# Altium integrated library xilinx-xc9.IntLib: 2 symbols
Pins are listed as number, name and electrical type; pins without a type are passive.

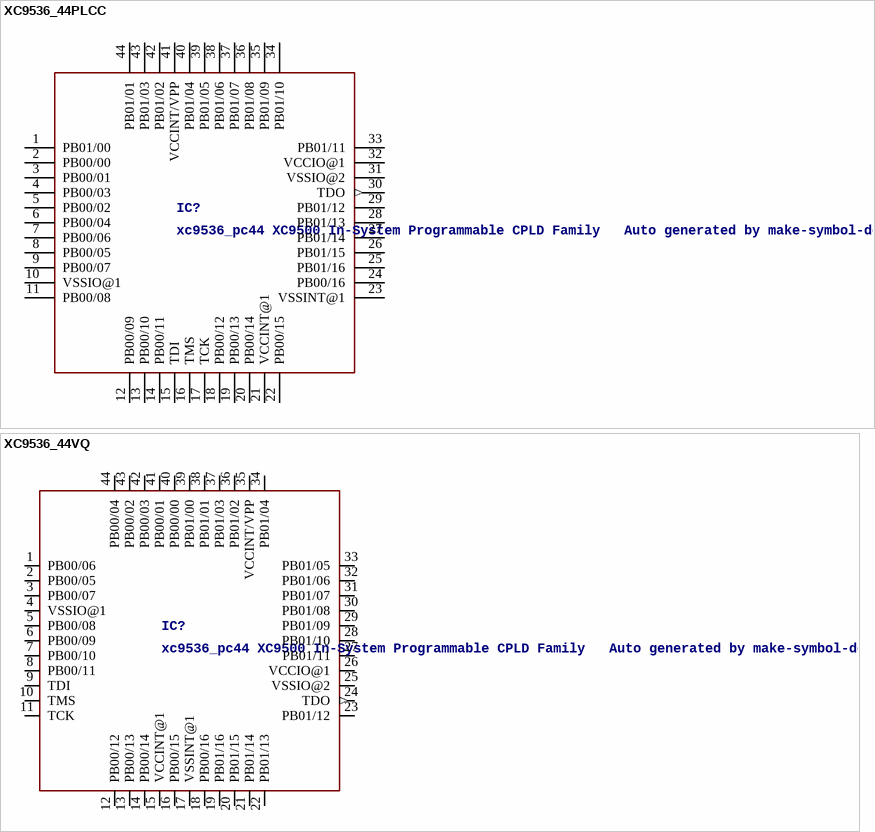
[diagram p0: symbols XC9536_44PLCC to XC9536_44VQ]

## XC9536_44PLCC
designator IC?, comment xc9536_pc44 XC9500 In-System Programmable CPLD Family   Auto generated by make-symbol-device-package-bsdl.ulp Rev. 34 Source: xc9536_pc44.bsd
MPN: XC9536-15PCG44C; OC_FARNELL: 1193226; OC_NEWARK: 98K3376
footprint PLCC44
pins: 1 PB01/00, 2 PB00/00, 3 PB00/01, 4 PB00/03, 5 PB00/02, 6 PB00/04, 7 PB00/06, 8 PB00/05, 9 PB00/07, 10 VSSIO@1 (power), 11 PB00/08, 12 PB00/09, 13 PB00/10, 14 PB00/11, 15 TDI, 16 TMS, 17 TCK, 18 PB00/12, 19 PB00/13, 20 PB00/14, 21 VCCINT@1 (power), 22 PB00/15, 23 VSSINT@1 (power), 24 PB00/16, 25 PB01/16, 26 PB01/15, 27 PB01/14, 28 PB01/13, 29 PB01/12, 30 TDO (out), 31 VSSIO@2 (power), 32 VCCIO@1 (power), 33 PB01/11, 34 PB01/10, 35 PB01/09, 36 PB01/08, 37 PB01/07, 38 PB01/06, 39 PB01/05, 40 PB01/04, 41 VCCINT/VPP, 42 PB01/02, 43 PB01/03, 44 PB01/01

## XC9536_44VQ
designator IC?, comment xc9536_pc44 XC9500 In-System Programmable CPLD Family   Auto generated by make-symbol-device-package-bsdl.ulp Rev. 34 Source: xc9536_vq44.bsd
MPN: XC9536-15VQG44C; OC_FARNELL: 1193227; OC_NEWARK: 98K3377
footprint SQFP-S-10X10-44
pins: 1 PB00/06, 2 PB00/05, 3 PB00/07, 4 VSSIO@1 (power), 5 PB00/08, 6 PB00/09, 7 PB00/10, 8 PB00/11, 9 TDI, 10 TMS, 11 TCK, 12 PB00/12, 13 PB00/13, 14 PB00/14, 15 VCCINT@1 (power), 16 PB00/15, 17 VSSINT@1 (power), 18 PB00/16, 19 PB01/16, 20 PB01/15, 21 PB01/14, 22 PB01/13, 23 PB01/12, 24 TDO (out), 25 VSSIO@2 (power), 26 VCCIO@1 (power), 27 PB01/11, 28 PB01/10, 29 PB01/09, 30 PB01/08, 31 PB01/07, 32 PB01/06, 33 PB01/05, 34 PB01/04, 35 VCCINT/VPP, 36 PB01/02, 37 PB01/03, 38 PB01/01, 39 PB01/00, 40 PB00/00, 41 PB00/01, 42 PB00/03, 43 PB00/02, 44 PB00/04